# Altium integrated library CRCW0603200KFKEA.IntLib: 1 symbol
Pins are listed as number, name and electrical type; pins without a type are passive.

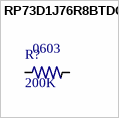
[diagram p0: symbol RP73D1J76R8BTDG]

## RP73D1J76R8BTDG
designator R?, comment 200K  foot print: 0603
Res Thin Film 0603 76.8 Ohm 0.1% 1/10W Â±15ppm/Â°C Molded SMD Paper T/R; MP: RP73D1J76R8BTDG; MF: TE Connectivity / Holsworthy; Design by: Faheem; Price: None; Package: 0603 TE Connectivity / AMP; SnapEDA_Link: https://www.snapeda.com/parts/RP73D1J76R8BTDG/TE%20Connectivity%20/%20Holsworthy/view-part/?ref=snap; Value: *; Buying URL:: https://uk.farnell.com/vishay/crcw0603200kfkea/res-200k-1-0-1w-0603-thick-film/dp/1469776?st=200k%200603%20resistir; Availability: Unavailable
footprint *RESC1608X60N
pins: 1, 2